# Altium footprint library TL9100.PcbLib: 1 footprints
Each footprint in its own frame and in the unit in brackets; x right, y up, seen from the top. Pads: shape width x height; smd on the part's side, far side on the other; paste and mask are expansions set on the pad; w line width, h text height; cw(c..) or ccw(c..) is an arc to the next point about the centre after c.
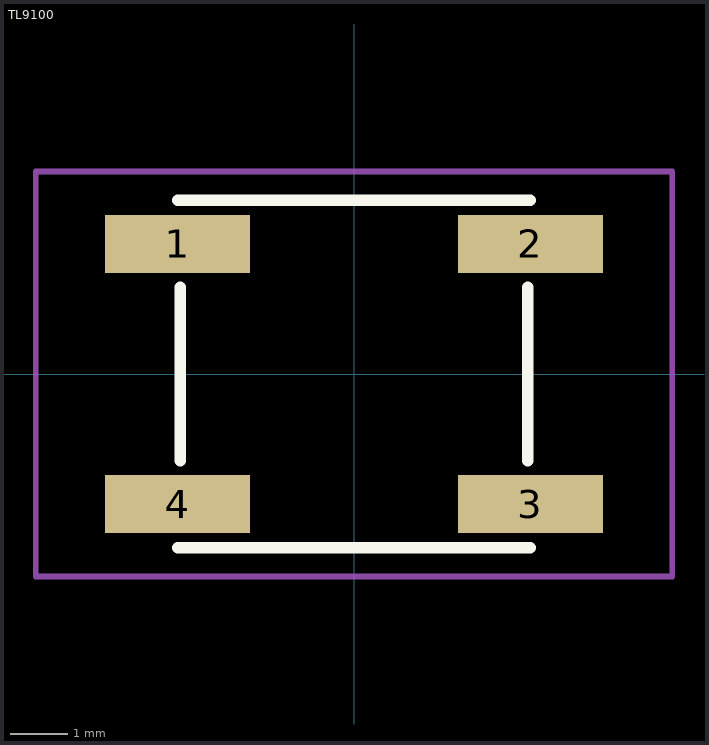
[diagram p0: the footprint, top view; thin cyan lines are the x and y axes]

## TL9100 [mm]
pads (4):
  rect 2.5x1 smd: 1(-3.05,2.25) 2(3.05,2.25) 3(3.05,-2.25) 4(-3.05,-2.25)
Top Overlay:
  lines w0.2: -3.05,-3 3.05,-3 ; -3.05,3 3.05,3 ; -3,-1.5 -3,1.5 ; 3,-1.5 3,1.5
Top Courtyard:
  lines w0.1: -5.5,-3.5 -5.5,3.5 5.5,3.5 5.5,-3.5 -5.5,-3.5
3D body "TL9100AF350Q.STEP": height 5, standoff 0, extent -3.7,-3.025 3.7,3.025